# Altium footprint library ST Microprocessor 32-Bit.PcbLib: 14 footprints
Each footprint in its own frame and in the unit in brackets; x right, y up, seen from the top. Pads: shape width x height; smd on the part's side, far side on the other; paste and mask are expansions set on the pad; w line width, h text height; cw(c..) or ccw(c..) is an arc to the next point about the centre after c.
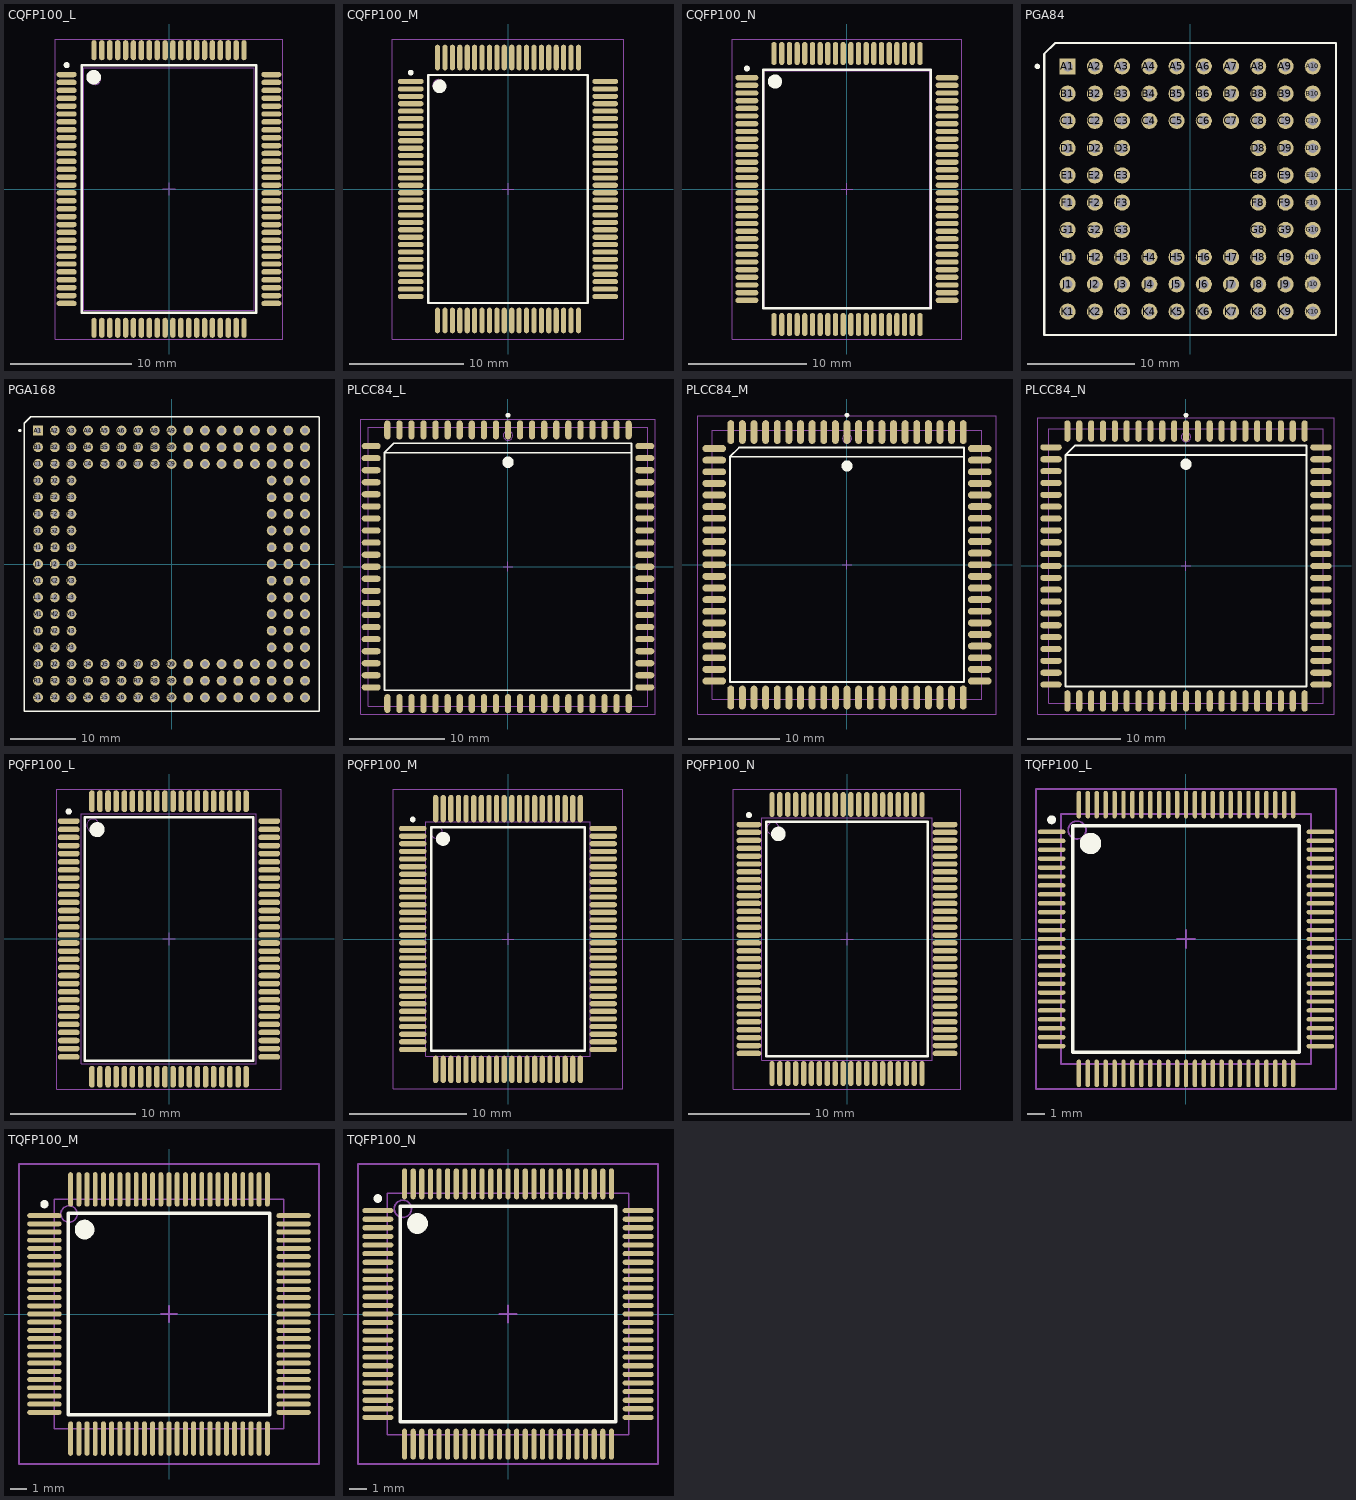
[diagram p0: the footprints below, top view; thin cyan lines are the x and y axes]

## CQFP100_L [mm] "QFP, 100-Leads, Body 20x14mm, Pitch 0.65mm, IPC High Density"
height 3.4
pads (100):
  oval 1.65x0.45 smd: 1(-8.425,9.425) 2(-8.425,8.775) 3(-8.425,8.125) 4(-8.425,7.475) 5(-8.425,6.825) 6(-8.425,6.175) 7(-8.425,5.525) 8(-8.425,4.875) 9(-8.425,4.225) 10(-8.425,3.575) 11(-8.425,2.925) 12(-8.425,2.275) 13(-8.425,1.625) 14(-8.425,0.975) 15(-8.425,0.325) 16(-8.425,-0.325) 17(-8.425,-0.975) 18(-8.425,-1.625) 19(-8.425,-2.275) 20(-8.425,-2.925) 21(-8.425,-3.575) 22(-8.425,-4.225) 23(-8.425,-4.875) 24(-8.425,-5.525) 25(-8.425,-6.175) 26(-8.425,-6.825) 27(-8.425,-7.475) 28(-8.425,-8.125) 29(-8.425,-8.775) 30(-8.425,-9.425) 51(8.425,-9.425) 52(8.425,-8.775) 53(8.425,-8.125) 54(8.425,-7.475) 55(8.425,-6.825) 56(8.425,-6.175) 57(8.425,-5.525) 58(8.425,-4.875) 59(8.425,-4.225) 60(8.425,-3.575) 61(8.425,-2.925) 62(8.425,-2.275) 63(8.425,-1.625) 64(8.425,-0.975) 65(8.425,-0.325) 66(8.425,0.325) 67(8.425,0.975) 68(8.425,1.625) 69(8.425,2.275) 70(8.425,2.925) 71(8.425,3.575) 72(8.425,4.225) 73(8.425,4.875) 74(8.425,5.525) 75(8.425,6.175) 76(8.425,6.825) 77(8.425,7.475) 78(8.425,8.125) 79(8.425,8.775) 80(8.425,9.425)
  oval 0.45x1.65 smd: 31(-6.175,-11.425) 32(-5.525,-11.425) 33(-4.875,-11.425) 34(-4.225,-11.425) 35(-3.575,-11.425) 36(-2.925,-11.425) 37(-2.275,-11.425) 38(-1.625,-11.425) 39(-0.975,-11.425) 40(-0.325,-11.425) 41(0.325,-11.425) 42(0.975,-11.425) 43(1.625,-11.425) 44(2.275,-11.425) 45(2.925,-11.425) 46(3.575,-11.425) 47(4.225,-11.425) 48(4.875,-11.425) 49(5.525,-11.425) 50(6.175,-11.425) 81(6.175,11.425) 82(5.525,11.425) 83(4.875,11.425) 84(4.225,11.425) 85(3.575,11.425) 86(2.925,11.425) 87(2.275,11.425) 88(1.625,11.425) 89(0.975,11.425) 90(0.325,11.425) 91(-0.325,11.425) 92(-0.975,11.425) 93(-1.625,11.425) 94(-2.275,11.425) 95(-2.925,11.425) 96(-3.575,11.425) 97(-4.225,11.425) 98(-4.875,11.425) 99(-5.525,11.425) 100(-6.175,11.425)
Top Overlay:
  circle w0.6: c-6.2,9.2 r0.3
  circle w0.25: c-8.425,10.2 r0.125
  lines w0.2: -7.2,-10.2 7.2,-10.2 7.2,10.2 -7.2,10.2 -7.2,-10.2
Mechanical 13:
  circle w0.1: c-6.1,9.1 r0.5
  lines w0.1: -7,-10 7,-10 7,10 -7,10 -7,-10
Mechanical 15:
  lines w0.1: -0.5,0 0.5,0 ; 0,-0.5 0,0.5 ; -9.35,-12.35 9.35,-12.35 9.35,12.35 -9.35,12.35 -9.35,-12.35
3D body: height 3.4, standoff 0, extent -7,-10 7,10

## CQFP100_M [mm] "QFP, 100-Leads, Body 20x14mm, Pitch 0.65mm, IPC Low Density"
height 3.4
pads (100):
  oval 2.25x0.45 smd: 1(-8.525,9.425) 2(-8.525,8.775) 3(-8.525,8.125) 4(-8.525,7.475) 5(-8.525,6.825) 6(-8.525,6.175) 7(-8.525,5.525) 8(-8.525,4.875) 9(-8.525,4.225) 10(-8.525,3.575) 11(-8.525,2.925) 12(-8.525,2.275) 13(-8.525,1.625) 14(-8.525,0.975) 15(-8.525,0.325) 16(-8.525,-0.325) 17(-8.525,-0.975) 18(-8.525,-1.625) 19(-8.525,-2.275) 20(-8.525,-2.925) 21(-8.525,-3.575) 22(-8.525,-4.225) 23(-8.525,-4.875) 24(-8.525,-5.525) 25(-8.525,-6.175) 26(-8.525,-6.825) 27(-8.525,-7.475) 28(-8.525,-8.125) 29(-8.525,-8.775) 30(-8.525,-9.425) 51(8.525,-9.425) 52(8.525,-8.775) 53(8.525,-8.125) 54(8.525,-7.475) 55(8.525,-6.825) 56(8.525,-6.175) 57(8.525,-5.525) 58(8.525,-4.875) 59(8.525,-4.225) 60(8.525,-3.575) 61(8.525,-2.925) 62(8.525,-2.275) 63(8.525,-1.625) 64(8.525,-0.975) 65(8.525,-0.325) 66(8.525,0.325) 67(8.525,0.975) 68(8.525,1.625) 69(8.525,2.275) 70(8.525,2.925) 71(8.525,3.575) 72(8.525,4.225) 73(8.525,4.875) 74(8.525,5.525) 75(8.525,6.175) 76(8.525,6.825) 77(8.525,7.475) 78(8.525,8.125) 79(8.525,8.775) 80(8.525,9.425)
  oval 0.45x2.25 smd: 31(-6.175,-11.525) 32(-5.525,-11.525) 33(-4.875,-11.525) 34(-4.225,-11.525) 35(-3.575,-11.525) 36(-2.925,-11.525) 37(-2.275,-11.525) 38(-1.625,-11.525) 39(-0.975,-11.525) 40(-0.325,-11.525) 41(0.325,-11.525) 42(0.975,-11.525) 43(1.625,-11.525) 44(2.275,-11.525) 45(2.925,-11.525) 46(3.575,-11.525) 47(4.225,-11.525) 48(4.875,-11.525) 49(5.525,-11.525) 50(6.175,-11.525) 81(6.175,11.525) 82(5.525,11.525) 83(4.875,11.525) 84(4.225,11.525) 85(3.575,11.525) 86(2.925,11.525) 87(2.275,11.525) 88(1.625,11.525) 89(0.975,11.525) 90(0.325,11.525) 91(-0.325,11.525) 92(-0.975,11.525) 93(-1.625,11.525) 94(-2.275,11.525) 95(-2.925,11.525) 96(-3.575,11.525) 97(-4.225,11.525) 98(-4.875,11.525) 99(-5.525,11.525) 100(-6.175,11.525)
Top Overlay:
  circle w0.25: c-8.525,10.2 r0.125
  circle w0.6: c-6,9 r0.3
  lines w0.2: -7,-10 -7,10 7,10 7,-10 -7,-10
Mechanical 13:
  circle w0.1: c-6.1,9.1 r0.5
  lines w0.1: -7,-10 -7,10 7,10 7,-10 -7,-10
Mechanical 15:
  lines w0.1: -0.5,0 0.5,0 ; 0,-0.5 0,0.5 ; -10.15,-13.15 -10.15,13.15 10.15,13.15 10.15,-13.15 -10.15,-13.15
3D body: height 3.4, standoff 0, extent -7,-10 7,10

## CQFP100_N [mm] "QFP, 100-Leads, Body 20x14mm, Pitch 0.65mm, IPC Medium Density"
height 3.4
pads (100):
  oval 1.95x0.45 smd: 1(-8.475,9.425) 2(-8.475,8.775) 3(-8.475,8.125) 4(-8.475,7.475) 5(-8.475,6.825) 6(-8.475,6.175) 7(-8.475,5.525) 8(-8.475,4.875) 9(-8.475,4.225) 10(-8.475,3.575) 11(-8.475,2.925) 12(-8.475,2.275) 13(-8.475,1.625) 14(-8.475,0.975) 15(-8.475,0.325) 16(-8.475,-0.325) 17(-8.475,-0.975) 18(-8.475,-1.625) 19(-8.475,-2.275) 20(-8.475,-2.925) 21(-8.475,-3.575) 22(-8.475,-4.225) 23(-8.475,-4.875) 24(-8.475,-5.525) 25(-8.475,-6.175) 26(-8.475,-6.825) 27(-8.475,-7.475) 28(-8.475,-8.125) 29(-8.475,-8.775) 30(-8.475,-9.425) 51(8.475,-9.425) 52(8.475,-8.775) 53(8.475,-8.125) 54(8.475,-7.475) 55(8.475,-6.825) 56(8.475,-6.175) 57(8.475,-5.525) 58(8.475,-4.875) 59(8.475,-4.225) 60(8.475,-3.575) 61(8.475,-2.925) 62(8.475,-2.275) 63(8.475,-1.625) 64(8.475,-0.975) 65(8.475,-0.325) 66(8.475,0.325) 67(8.475,0.975) 68(8.475,1.625) 69(8.475,2.275) 70(8.475,2.925) 71(8.475,3.575) 72(8.475,4.225) 73(8.475,4.875) 74(8.475,5.525) 75(8.475,6.175) 76(8.475,6.825) 77(8.475,7.475) 78(8.475,8.125) 79(8.475,8.775) 80(8.475,9.425)
  oval 0.45x1.95 smd: 31(-6.175,-11.475) 32(-5.525,-11.475) 33(-4.875,-11.475) 34(-4.225,-11.475) 35(-3.575,-11.475) 36(-2.925,-11.475) 37(-2.275,-11.475) 38(-1.625,-11.475) 39(-0.975,-11.475) 40(-0.325,-11.475) 41(0.325,-11.475) 42(0.975,-11.475) 43(1.625,-11.475) 44(2.275,-11.475) 45(2.925,-11.475) 46(3.575,-11.475) 47(4.225,-11.475) 48(4.875,-11.475) 49(5.525,-11.475) 50(6.175,-11.475) 81(6.175,11.475) 82(5.525,11.475) 83(4.875,11.475) 84(4.225,11.475) 85(3.575,11.475) 86(2.925,11.475) 87(2.275,11.475) 88(1.625,11.475) 89(0.975,11.475) 90(0.325,11.475) 91(-0.325,11.475) 92(-0.975,11.475) 93(-1.625,11.475) 94(-2.275,11.475) 95(-2.925,11.475) 96(-3.575,11.475) 97(-4.225,11.475) 98(-4.875,11.475) 99(-5.525,11.475) 100(-6.175,11.475)
Top Overlay:
  circle w0.25: c-8.475,10.2 r0.125
  circle w0.6: c-6.1,9.1 r0.3
  lines w0.2: -7.1,-10.1 -7.1,10.1 7.1,10.1 7.1,-10.1 -7.1,-10.1
Mechanical 13:
  circle w0.1: c-6.1,9.1 r0.5
  lines w0.1: -7,-10 -7,10 7,10 7,-10 -7,-10
Mechanical 15:
  lines w0.1: -0.5,0 0.5,0 ; 0,-0.5 0,0.5 ; -9.7,-12.7 -9.7,12.7 9.7,12.7 9.7,-12.7 -9.7,-12.7
3D body: height 3.4, standoff 0, extent -7,-10 7,10

## PGA84 [mm] "PGA, 84-Leads, Body 27x27mm, Pitch 2.54mm"
height 5.47
pads (84):
  rect 1.5x1.5 hole 0.9: A1(-11.43,11.43)
  round 1.5 hole 0.9: A2(-8.89,11.43) A3(-6.35,11.43) A4(-3.81,11.43) A5(-1.27,11.43) A6(1.27,11.43) A7(3.81,11.43) A8(6.35,11.43) A9(8.89,11.43) A10(11.43,11.43) B1(-11.43,8.89) B2(-8.89,8.89) B3(-6.35,8.89) B4(-3.81,8.89) B5(-1.27,8.89) B6(1.27,8.89) B7(3.81,8.89) B8(6.35,8.89) B9(8.89,8.89) B10(11.43,8.89) C1(-11.43,6.35) C2(-8.89,6.35) C3(-6.35,6.35) C4(-3.81,6.35) C5(-1.27,6.35) C6(1.27,6.35) C7(3.81,6.35) C8(6.35,6.35) C9(8.89,6.35) C10(11.43,6.35) D1(-11.43,3.81) D2(-8.89,3.81) D3(-6.35,3.81) D8(6.35,3.81) D9(8.89,3.81) D10(11.43,3.81) E1(-11.43,1.27) E2(-8.89,1.27) E3(-6.35,1.27) E8(6.35,1.27) E9(8.89,1.27) E10(11.43,1.27) F1(-11.43,-1.27) F2(-8.89,-1.27) F3(-6.35,-1.27) F8(6.35,-1.27) F9(8.89,-1.27) F10(11.43,-1.27) G1(-11.43,-3.81) G2(-8.89,-3.81) G3(-6.35,-3.81) G8(6.35,-3.81) G9(8.89,-3.81) G10(11.43,-3.81) H1(-11.43,-6.35) H2(-8.89,-6.35) H3(-6.35,-6.35) H4(-3.81,-6.35) H5(-1.27,-6.35) H6(1.27,-6.35) H7(3.81,-6.35) H8(6.35,-6.35) H9(8.89,-6.35) H10(11.43,-6.35) J1(-11.43,-8.89) J2(-8.89,-8.89) J3(-6.35,-8.89) J4(-3.81,-8.89) J5(-1.27,-8.89) J6(1.27,-8.89) J7(3.81,-8.89) J8(6.35,-8.89) J9(8.89,-8.89) J10(11.43,-8.89) K1(-11.43,-11.43) K2(-8.89,-11.43) K3(-6.35,-11.43) K4(-3.81,-11.43) K5(-1.27,-11.43) K6(1.27,-11.43) K7(3.81,-11.43) K8(6.35,-11.43) K9(8.89,-11.43) K10(11.43,-11.43)
Top Overlay:
  circle w0.25: c-14.25,11.43 r0.125
  lines w0.2: -13.6,-13.6 -13.6,12.6 -12.6,13.6 13.6,13.6 13.6,-13.6 -13.6,-13.6

## PGA168 [mm] "PGA, 168-Leads, Body 44.5x44.5mm, Pitch 2.54mm"
height 4.72
pads (168):
  rect 1.5x1.5 hole 0.9: A1(-20.32,20.32)
  round 1.5 hole 0.9: A2(-17.78,20.32) A3(-15.24,20.32) A4(-12.7,20.32) A5(-10.16,20.32) A6(-7.62,20.32) A7(-5.08,20.32) A8(-2.54,20.32) A9(0,20.32) A10(2.54,20.32) A11(5.08,20.32) A12(7.62,20.32) A13(10.16,20.32) A14(12.7,20.32) A15(15.24,20.32) A16(17.78,20.32) A17(20.32,20.32) B1(-20.32,17.78) B2(-17.78,17.78) B3(-15.24,17.78) B4(-12.7,17.78) B5(-10.16,17.78) B6(-7.62,17.78) B7(-5.08,17.78) B8(-2.54,17.78) B9(0,17.78) B10(2.54,17.78) B11(5.08,17.78) B12(7.62,17.78) B13(10.16,17.78) B14(12.7,17.78) B15(15.24,17.78) B16(17.78,17.78) B17(20.32,17.78) C1(-20.32,15.24) C2(-17.78,15.24) C3(-15.24,15.24) C4(-12.7,15.24) C5(-10.16,15.24) C6(-7.62,15.24) C7(-5.08,15.24) C8(-2.54,15.24) C9(0,15.24) C10(2.54,15.24) C11(5.08,15.24) C12(7.62,15.24) C13(10.16,15.24) C14(12.7,15.24) C15(15.24,15.24) C16(17.78,15.24) C17(20.32,15.24) D1(-20.32,12.7) D2(-17.78,12.7) D3(-15.24,12.7) D15(15.24,12.7) D16(17.78,12.7) D17(20.32,12.7) E1(-20.32,10.16) E2(-17.78,10.16) E3(-15.24,10.16) E15(15.24,10.16) E16(17.78,10.16) E17(20.32,10.16) F1(-20.32,7.62) F2(-17.78,7.62) F3(-15.24,7.62) F15(15.24,7.62) F16(17.78,7.62) F17(20.32,7.62) G1(-20.32,5.08) G2(-17.78,5.08) G3(-15.24,5.08) G15(15.24,5.08) G16(17.78,5.08) G17(20.32,5.08) H1(-20.32,2.54) H2(-17.78,2.54) H3(-15.24,2.54) H15(15.24,2.54) H16(17.78,2.54) H17(20.32,2.54) J1(-20.32,0) J2(-17.78,0) J3(-15.24,0) J15(15.24,0) J16(17.78,0) J17(20.32,0) K1(-20.32,-2.54) K2(-17.78,-2.54) K3(-15.24,-2.54) K15(15.24,-2.54) K16(17.78,-2.54) K17(20.32,-2.54) L1(-20.32,-5.08) L2(-17.78,-5.08) L3(-15.24,-5.08) L15(15.24,-5.08) L16(17.78,-5.08) L17(20.32,-5.08) M1(-20.32,-7.62) M2(-17.78,-7.62) M3(-15.24,-7.62) M15(15.24,-7.62) M16(17.78,-7.62) M17(20.32,-7.62) N1(-20.32,-10.16) N2(-17.78,-10.16) N3(-15.24,-10.16) N15(15.24,-10.16) N16(17.78,-10.16) N17(20.32,-10.16) P1(-20.32,-12.7) P2(-17.78,-12.7) P3(-15.24,-12.7) P15(15.24,-12.7) P16(17.78,-12.7) P17(20.32,-12.7) Q1(-20.32,-15.24) Q2(-17.78,-15.24) Q3(-15.24,-15.24) Q4(-12.7,-15.24) Q5(-10.16,-15.24) Q6(-7.62,-15.24) Q7(-5.08,-15.24) Q8(-2.54,-15.24) Q9(0,-15.24) Q10(2.54,-15.24) Q11(5.08,-15.24) Q12(7.62,-15.24) Q13(10.16,-15.24) Q14(12.7,-15.24) Q15(15.24,-15.24) Q16(17.78,-15.24) Q17(20.32,-15.24) R1(-20.32,-17.78) R2(-17.78,-17.78) R3(-15.24,-17.78) R4(-12.7,-17.78) R5(-10.16,-17.78) R6(-7.62,-17.78) R7(-5.08,-17.78) R8(-2.54,-17.78) R9(0,-17.78) R10(2.54,-17.78) R11(5.08,-17.78) R12(7.62,-17.78) R13(10.16,-17.78) R14(12.7,-17.78) R15(15.24,-17.78) R16(17.78,-17.78) R17(20.32,-17.78) S1(-20.32,-20.32) S2(-17.78,-20.32) S3(-15.24,-20.32) S4(-12.7,-20.32) S5(-10.16,-20.32) S6(-7.62,-20.32) S7(-5.08,-20.32) S8(-2.54,-20.32) S9(0,-20.32) S10(2.54,-20.32) S11(5.08,-20.32) S12(7.62,-20.32) S13(10.16,-20.32) S14(12.7,-20.32) S15(15.24,-20.32) S16(17.78,-20.32) S17(20.32,-20.32)
Top Overlay:
  circle w0.25: c-23.1,20.32 r0.125
  lines w0.2: -22.45,-22.45 -22.45,21.45 -21.45,22.45 22.45,22.45 22.45,-22.45 -22.45,-22.45

## PLCC84_L [mm] "Leaded Chip Carrier, 84-Leads, Body 29.3x29.3mm, Pitch 1.27mm, IPC High Density"
height 5.08
pads (84):
  oval 0.65x2 smd: 1(0,14.4) 2(-1.27,14.4) 3(-2.54,14.4) 4(-3.81,14.4) 5(-5.08,14.4) 6(-6.35,14.4) 7(-7.62,14.4) 8(-8.89,14.4) 9(-10.16,14.4) 10(-11.43,14.4) 11(-12.7,14.4) 33(-12.7,-14.4) 34(-11.43,-14.4) 35(-10.16,-14.4) 36(-8.89,-14.4) 37(-7.62,-14.4) 38(-6.35,-14.4) 39(-5.08,-14.4) 40(-3.81,-14.4) 41(-2.54,-14.4) 42(-1.27,-14.4) 43(0,-14.4) 44(1.27,-14.4) 45(2.54,-14.4) 46(3.81,-14.4) 47(5.08,-14.4) 48(6.35,-14.4) 49(7.62,-14.4) 50(8.89,-14.4) 51(10.16,-14.4) 52(11.43,-14.4) 53(12.7,-14.4) 75(12.7,14.4) 76(11.43,14.4) 77(10.16,14.4) 78(8.89,14.4) 79(7.62,14.4) 80(6.35,14.4) 81(5.08,14.4) 82(3.81,14.4) 83(2.54,14.4) 84(1.27,14.4)
  oval 2x0.65 smd: 12(-14.4,12.7) 13(-14.4,11.43) 14(-14.4,10.16) 15(-14.4,8.89) 16(-14.4,7.62) 17(-14.4,6.35) 18(-14.4,5.08) 19(-14.4,3.81) 20(-14.4,2.54) 21(-14.4,1.27) 22(-14.4,0) 23(-14.4,-1.27) 24(-14.4,-2.54) 25(-14.4,-3.81) 26(-14.4,-5.08) 27(-14.4,-6.35) 28(-14.4,-7.62) 29(-14.4,-8.89) 30(-14.4,-10.16) 31(-14.4,-11.43) 32(-14.4,-12.7) 54(14.4,-12.7) 55(14.4,-11.43) 56(14.4,-10.16) 57(14.4,-8.89) 58(14.4,-7.62) 59(14.4,-6.35) 60(14.4,-5.08) 61(14.4,-3.81) 62(14.4,-2.54) 63(14.4,-1.27) 64(14.4,0) 65(14.4,1.27) 66(14.4,2.54) 67(14.4,3.81) 68(14.4,5.08) 69(14.4,6.35) 70(14.4,7.62) 71(14.4,8.89) 72(14.4,10.16) 73(14.4,11.43) 74(14.4,12.7)
Top Overlay:
  circle w0.25: c0,15.95 r0.125
  circle w0.6: c0,11 r0.3
  lines w0.2: 13,12 -13,12 ; -13,12 -12,13 13,13 13,-13 -13,-13 -13,12
Mechanical 13:
  circle w0.1: c0,13.805 r0.5
  lines w0.1: -14.705,-14.705 -14.705,14.705 14.705,14.705 14.705,-14.705 -14.705,-14.705
Mechanical 15:
  lines w0.1: -0.5,0 0.5,0 ; 0,-0.5 0,0.5 ; -15.5,-15.5 -15.5,15.5 15.5,15.5 15.5,-15.5 -15.5,-15.5
3D body: height 5.08, standoff 0, extent -14.705,-14.705 14.705,14.705

## PLCC84_M [mm] "Leaded Chip Carrier, 84-Leads, Body 29.3x29.3mm, Pitch 1.27mm, IPC Low Density"
height 5.08
pads (84):
  oval 0.75x2.6 smd: 1(0,14.5) 2(-1.27,14.5) 3(-2.54,14.5) 4(-3.81,14.5) 5(-5.08,14.5) 6(-6.35,14.5) 7(-7.62,14.5) 8(-8.89,14.5) 9(-10.16,14.5) 10(-11.43,14.5) 11(-12.7,14.5) 33(-12.7,-14.5) 34(-11.43,-14.5) 35(-10.16,-14.5) 36(-8.89,-14.5) 37(-7.62,-14.5) 38(-6.35,-14.5) 39(-5.08,-14.5) 40(-3.81,-14.5) 41(-2.54,-14.5) 42(-1.27,-14.5) 43(0,-14.5) 44(1.27,-14.5) 45(2.54,-14.5) 46(3.81,-14.5) 47(5.08,-14.5) 48(6.35,-14.5) 49(7.62,-14.5) 50(8.89,-14.5) 51(10.16,-14.5) 52(11.43,-14.5) 53(12.7,-14.5) 75(12.7,14.5) 76(11.43,14.5) 77(10.16,14.5) 78(8.89,14.5) 79(7.62,14.5) 80(6.35,14.5) 81(5.08,14.5) 82(3.81,14.5) 83(2.54,14.5) 84(1.27,14.5)
  oval 2.6x0.75 smd: 12(-14.5,12.7) 13(-14.5,11.43) 14(-14.5,10.16) 15(-14.5,8.89) 16(-14.5,7.62) 17(-14.5,6.35) 18(-14.5,5.08) 19(-14.5,3.81) 20(-14.5,2.54) 21(-14.5,1.27) 22(-14.5,0) 23(-14.5,-1.27) 24(-14.5,-2.54) 25(-14.5,-3.81) 26(-14.5,-5.08) 27(-14.5,-6.35) 28(-14.5,-7.62) 29(-14.5,-8.89) 30(-14.5,-10.16) 31(-14.5,-11.43) 32(-14.5,-12.7) 54(14.5,-12.7) 55(14.5,-11.43) 56(14.5,-10.16) 57(14.5,-8.89) 58(14.5,-7.62) 59(14.5,-6.35) 60(14.5,-5.08) 61(14.5,-3.81) 62(14.5,-2.54) 63(14.5,-1.27) 64(14.5,0) 65(14.5,1.27) 66(14.5,2.54) 67(14.5,3.81) 68(14.5,5.08) 69(14.5,6.35) 70(14.5,7.62) 71(14.5,8.89) 72(14.5,10.16) 73(14.5,11.43) 74(14.5,12.7)
Top Overlay:
  circle w0.25: c0,16.35 r0.125
  circle w0.6: c0,10.8 r0.3
  lines w0.2: 12.8,11.8 -12.8,11.8 ; -12.8,11.8 -11.8,12.8 12.8,12.8 12.8,-12.8 -12.8,-12.8 -12.8,11.8
Mechanical 13:
  circle w0.1: c0,13.805 r0.5
  lines w0.1: -14.705,-14.705 -14.705,14.705 14.705,14.705 14.705,-14.705 -14.705,-14.705
Mechanical 15:
  lines w0.1: -0.5,0 0.5,0 ; 0,-0.5 0,0.5 ; -16.3,-16.3 -16.3,16.3 16.3,16.3 16.3,-16.3 -16.3,-16.3
3D body: height 5.08, standoff 0, extent -14.705,-14.705 14.705,14.705

## PLCC84_N [mm] "Leaded Chip Carrier, 84-Leads, Body 29.3x29.3mm, Pitch 1.27mm, IPC Medium Density"
height 5.08
pads (84):
  oval 0.65x2.3 smd: 1(0,14.45) 2(-1.27,14.45) 3(-2.54,14.45) 4(-3.81,14.45) 5(-5.08,14.45) 6(-6.35,14.45) 7(-7.62,14.45) 8(-8.89,14.45) 9(-10.16,14.45) 10(-11.43,14.45) 11(-12.7,14.45) 33(-12.7,-14.45) 34(-11.43,-14.45) 35(-10.16,-14.45) 36(-8.89,-14.45) 37(-7.62,-14.45) 38(-6.35,-14.45) 39(-5.08,-14.45) 40(-3.81,-14.45) 41(-2.54,-14.45) 42(-1.27,-14.45) 43(0,-14.45) 44(1.27,-14.45) 45(2.54,-14.45) 46(3.81,-14.45) 47(5.08,-14.45) 48(6.35,-14.45) 49(7.62,-14.45) 50(8.89,-14.45) 51(10.16,-14.45) 52(11.43,-14.45) 53(12.7,-14.45) 75(12.7,14.45) 76(11.43,14.45) 77(10.16,14.45) 78(8.89,14.45) 79(7.62,14.45) 80(6.35,14.45) 81(5.08,14.45) 82(3.81,14.45) 83(2.54,14.45) 84(1.27,14.45)
  oval 2.3x0.65 smd: 12(-14.45,12.7) 13(-14.45,11.43) 14(-14.45,10.16) 15(-14.45,8.89) 16(-14.45,7.62) 17(-14.45,6.35) 18(-14.45,5.08) 19(-14.45,3.81) 20(-14.45,2.54) 21(-14.45,1.27) 22(-14.45,0) 23(-14.45,-1.27) 24(-14.45,-2.54) 25(-14.45,-3.81) 26(-14.45,-5.08) 27(-14.45,-6.35) 28(-14.45,-7.62) 29(-14.45,-8.89) 30(-14.45,-10.16) 31(-14.45,-11.43) 32(-14.45,-12.7) 54(14.45,-12.7) 55(14.45,-11.43) 56(14.45,-10.16) 57(14.45,-8.89) 58(14.45,-7.62) 59(14.45,-6.35) 60(14.45,-5.08) 61(14.45,-3.81) 62(14.45,-2.54) 63(14.45,-1.27) 64(14.45,0) 65(14.45,1.27) 66(14.45,2.54) 67(14.45,3.81) 68(14.45,5.08) 69(14.45,6.35) 70(14.45,7.62) 71(14.45,8.89) 72(14.45,10.16) 73(14.45,11.43) 74(14.45,12.7)
Top Overlay:
  circle w0.25: c0,16.15 r0.125
  circle w0.6: c0,10.9 r0.3
  lines w0.2: 12.9,11.9 -12.9,11.9 ; -12.9,11.9 -11.9,12.9 12.9,12.9 12.9,-12.9 -12.9,-12.9 -12.9,11.9
Mechanical 13:
  circle w0.1: c0,13.805 r0.5
  lines w0.1: -14.705,-14.705 -14.705,14.705 14.705,14.705 14.705,-14.705 -14.705,-14.705
Mechanical 15:
  lines w0.1: -0.5,0 0.5,0 ; 0,-0.5 0,0.5 ; -15.85,-15.85 -15.85,15.85 15.85,15.85 15.85,-15.85 -15.85,-15.85
3D body: height 5.08, standoff 0, extent -14.705,-14.705 14.705,14.705

## PQFP100_L [mm] "QFP, 100-Leads, Body 20x14mm, Pitch 0.65mm, IPC High Density"
height 3.4
pads (100):
  oval 1.75x0.45 smd: 1(-8.025,9.425) 2(-8.025,8.775) 3(-8.025,8.125) 4(-8.025,7.475) 5(-8.025,6.825) 6(-8.025,6.175) 7(-8.025,5.525) 8(-8.025,4.875) 9(-8.025,4.225) 10(-8.025,3.575) 11(-8.025,2.925) 12(-8.025,2.275) 13(-8.025,1.625) 14(-8.025,0.975) 15(-8.025,0.325) 16(-8.025,-0.325) 17(-8.025,-0.975) 18(-8.025,-1.625) 19(-8.025,-2.275) 20(-8.025,-2.925) 21(-8.025,-3.575) 22(-8.025,-4.225) 23(-8.025,-4.875) 24(-8.025,-5.525) 25(-8.025,-6.175) 26(-8.025,-6.825) 27(-8.025,-7.475) 28(-8.025,-8.125) 29(-8.025,-8.775) 30(-8.025,-9.425) 51(8.025,-9.425) 52(8.025,-8.775) 53(8.025,-8.125) 54(8.025,-7.475) 55(8.025,-6.825) 56(8.025,-6.175) 57(8.025,-5.525) 58(8.025,-4.875) 59(8.025,-4.225) 60(8.025,-3.575) 61(8.025,-2.925) 62(8.025,-2.275) 63(8.025,-1.625) 64(8.025,-0.975) 65(8.025,-0.325) 66(8.025,0.325) 67(8.025,0.975) 68(8.025,1.625) 69(8.025,2.275) 70(8.025,2.925) 71(8.025,3.575) 72(8.025,4.225) 73(8.025,4.875) 74(8.025,5.525) 75(8.025,6.175) 76(8.025,6.825) 77(8.025,7.475) 78(8.025,8.125) 79(8.025,8.775) 80(8.025,9.425)
  oval 0.45x1.75 smd: 31(-6.175,-11.025) 32(-5.525,-11.025) 33(-4.875,-11.025) 34(-4.225,-11.025) 35(-3.575,-11.025) 36(-2.925,-11.025) 37(-2.275,-11.025) 38(-1.625,-11.025) 39(-0.975,-11.025) 40(-0.325,-11.025) 41(0.325,-11.025) 42(0.975,-11.025) 43(1.625,-11.025) 44(2.275,-11.025) 45(2.925,-11.025) 46(3.575,-11.025) 47(4.225,-11.025) 48(4.875,-11.025) 49(5.525,-11.025) 50(6.175,-11.025) 81(6.175,11.025) 82(5.525,11.025) 83(4.875,11.025) 84(4.225,11.025) 85(3.575,11.025) 86(2.925,11.025) 87(2.275,11.025) 88(1.625,11.025) 89(0.975,11.025) 90(0.325,11.025) 91(-0.325,11.025) 92(-0.975,11.025) 93(-1.625,11.025) 94(-2.275,11.025) 95(-2.925,11.025) 96(-3.575,11.025) 97(-4.225,11.025) 98(-4.875,11.025) 99(-5.525,11.025) 100(-6.175,11.025)
Top Overlay:
  circle w0.6: c-5.75,8.75 r0.3
  circle w0.25: c-8.025,10.2 r0.125
  lines w0.2: -6.75,-9.75 6.75,-9.75 6.75,9.75 -6.75,9.75 -6.75,-9.75
Mechanical 13:
  circle w0.1: c-6.1,9.1 r0.5
  lines w0.1: -7,-10 7,-10 7,10 -7,10 -7,-10
Mechanical 15:
  lines w0.1: -0.5,0 0.5,0 ; 0,-0.5 0,0.5 ; -9,-12 9,-12 9,12 -9,12 -9,-12
3D body: height 3.4, standoff 0, extent -7,-10 7,10

## PQFP100_M [mm] "QFP, 100-Leads, Body 20x14mm, Pitch 0.65mm, IPC Low Density"
height 3.4
pads (100):
  oval 2.35x0.45 smd: 1(-8.125,9.425) 2(-8.125,8.775) 3(-8.125,8.125) 4(-8.125,7.475) 5(-8.125,6.825) 6(-8.125,6.175) 7(-8.125,5.525) 8(-8.125,4.875) 9(-8.125,4.225) 10(-8.125,3.575) 11(-8.125,2.925) 12(-8.125,2.275) 13(-8.125,1.625) 14(-8.125,0.975) 15(-8.125,0.325) 16(-8.125,-0.325) 17(-8.125,-0.975) 18(-8.125,-1.625) 19(-8.125,-2.275) 20(-8.125,-2.925) 21(-8.125,-3.575) 22(-8.125,-4.225) 23(-8.125,-4.875) 24(-8.125,-5.525) 25(-8.125,-6.175) 26(-8.125,-6.825) 27(-8.125,-7.475) 28(-8.125,-8.125) 29(-8.125,-8.775) 30(-8.125,-9.425) 51(8.125,-9.425) 52(8.125,-8.775) 53(8.125,-8.125) 54(8.125,-7.475) 55(8.125,-6.825) 56(8.125,-6.175) 57(8.125,-5.525) 58(8.125,-4.875) 59(8.125,-4.225) 60(8.125,-3.575) 61(8.125,-2.925) 62(8.125,-2.275) 63(8.125,-1.625) 64(8.125,-0.975) 65(8.125,-0.325) 66(8.125,0.325) 67(8.125,0.975) 68(8.125,1.625) 69(8.125,2.275) 70(8.125,2.925) 71(8.125,3.575) 72(8.125,4.225) 73(8.125,4.875) 74(8.125,5.525) 75(8.125,6.175) 76(8.125,6.825) 77(8.125,7.475) 78(8.125,8.125) 79(8.125,8.775) 80(8.125,9.425)
  oval 0.45x2.35 smd: 31(-6.175,-11.125) 32(-5.525,-11.125) 33(-4.875,-11.125) 34(-4.225,-11.125) 35(-3.575,-11.125) 36(-2.925,-11.125) 37(-2.275,-11.125) 38(-1.625,-11.125) 39(-0.975,-11.125) 40(-0.325,-11.125) 41(0.325,-11.125) 42(0.975,-11.125) 43(1.625,-11.125) 44(2.275,-11.125) 45(2.925,-11.125) 46(3.575,-11.125) 47(4.225,-11.125) 48(4.875,-11.125) 49(5.525,-11.125) 50(6.175,-11.125) 81(6.175,11.125) 82(5.525,11.125) 83(4.875,11.125) 84(4.225,11.125) 85(3.575,11.125) 86(2.925,11.125) 87(2.275,11.125) 88(1.625,11.125) 89(0.975,11.125) 90(0.325,11.125) 91(-0.325,11.125) 92(-0.975,11.125) 93(-1.625,11.125) 94(-2.275,11.125) 95(-2.925,11.125) 96(-3.575,11.125) 97(-4.225,11.125) 98(-4.875,11.125) 99(-5.525,11.125) 100(-6.175,11.125)
Top Overlay:
  circle w0.6: c-5.55,8.55 r0.3
  circle w0.25: c-8.125,10.2 r0.125
  lines w0.2: -6.55,-9.55 6.55,-9.55 6.55,9.55 -6.55,9.55 -6.55,-9.55
Mechanical 13:
  circle w0.1: c-6.1,9.1 r0.5
  lines w0.1: -7,-10 7,-10 7,10 -7,10 -7,-10
Mechanical 15:
  lines w0.1: -0.5,0 0.5,0 ; 0,-0.5 0,0.5 ; -9.8,-12.8 9.8,-12.8 9.8,12.8 -9.8,12.8 -9.8,-12.8
3D body: height 3.4, standoff 0, extent -7,-10 7,10

## PQFP100_N [mm] "QFP, 100-Leads, Body 20x14mm, Pitch 0.65mm, IPC Medium Density"
height 3.4
pads (100):
  oval 2.05x0.45 smd: 1(-8.075,9.425) 2(-8.075,8.775) 3(-8.075,8.125) 4(-8.075,7.475) 5(-8.075,6.825) 6(-8.075,6.175) 7(-8.075,5.525) 8(-8.075,4.875) 9(-8.075,4.225) 10(-8.075,3.575) 11(-8.075,2.925) 12(-8.075,2.275) 13(-8.075,1.625) 14(-8.075,0.975) 15(-8.075,0.325) 16(-8.075,-0.325) 17(-8.075,-0.975) 18(-8.075,-1.625) 19(-8.075,-2.275) 20(-8.075,-2.925) 21(-8.075,-3.575) 22(-8.075,-4.225) 23(-8.075,-4.875) 24(-8.075,-5.525) 25(-8.075,-6.175) 26(-8.075,-6.825) 27(-8.075,-7.475) 28(-8.075,-8.125) 29(-8.075,-8.775) 30(-8.075,-9.425) 51(8.075,-9.425) 52(8.075,-8.775) 53(8.075,-8.125) 54(8.075,-7.475) 55(8.075,-6.825) 56(8.075,-6.175) 57(8.075,-5.525) 58(8.075,-4.875) 59(8.075,-4.225) 60(8.075,-3.575) 61(8.075,-2.925) 62(8.075,-2.275) 63(8.075,-1.625) 64(8.075,-0.975) 65(8.075,-0.325) 66(8.075,0.325) 67(8.075,0.975) 68(8.075,1.625) 69(8.075,2.275) 70(8.075,2.925) 71(8.075,3.575) 72(8.075,4.225) 73(8.075,4.875) 74(8.075,5.525) 75(8.075,6.175) 76(8.075,6.825) 77(8.075,7.475) 78(8.075,8.125) 79(8.075,8.775) 80(8.075,9.425)
  oval 0.45x2.05 smd: 31(-6.175,-11.075) 32(-5.525,-11.075) 33(-4.875,-11.075) 34(-4.225,-11.075) 35(-3.575,-11.075) 36(-2.925,-11.075) 37(-2.275,-11.075) 38(-1.625,-11.075) 39(-0.975,-11.075) 40(-0.325,-11.075) 41(0.325,-11.075) 42(0.975,-11.075) 43(1.625,-11.075) 44(2.275,-11.075) 45(2.925,-11.075) 46(3.575,-11.075) 47(4.225,-11.075) 48(4.875,-11.075) 49(5.525,-11.075) 50(6.175,-11.075) 81(6.175,11.075) 82(5.525,11.075) 83(4.875,11.075) 84(4.225,11.075) 85(3.575,11.075) 86(2.925,11.075) 87(2.275,11.075) 88(1.625,11.075) 89(0.975,11.075) 90(0.325,11.075) 91(-0.325,11.075) 92(-0.975,11.075) 93(-1.625,11.075) 94(-2.275,11.075) 95(-2.925,11.075) 96(-3.575,11.075) 97(-4.225,11.075) 98(-4.875,11.075) 99(-5.525,11.075) 100(-6.175,11.075)
Top Overlay:
  circle w0.6: c-5.65,8.65 r0.3
  circle w0.25: c-8.075,10.2 r0.125
  lines w0.2: -6.65,-9.65 6.65,-9.65 6.65,9.65 -6.65,9.65 -6.65,-9.65
Mechanical 13:
  circle w0.1: c-6.1,9.1 r0.5
  lines w0.1: -7,-10 7,-10 7,10 -7,10 -7,-10
Mechanical 15:
  lines w0.1: -0.5,0 0.5,0 ; 0,-0.5 0,0.5 ; -9.35,-12.35 9.35,-12.35 9.35,12.35 -9.35,12.35 -9.35,-12.35
3D body: height 3.4, standoff 0, extent -7,-10 7,10

## TQFP100_L [mm] "Thin QFP, 100-Leads, Body 14x14mm, Pitch 0.5mm, IPC High Density"
height 1.6
pads (100):
  oval 1.55x0.25 smd: 1(-7.525,6) 2(-7.525,5.5) 3(-7.525,5) 4(-7.525,4.5) 5(-7.525,4) 6(-7.525,3.5) 7(-7.525,3) 8(-7.525,2.5) 9(-7.525,2) 10(-7.525,1.5) 11(-7.525,1) 12(-7.525,0.5) 13(-7.525,0) 14(-7.525,-0.5) 15(-7.525,-1) 16(-7.525,-1.5) 17(-7.525,-2) 18(-7.525,-2.5) 19(-7.525,-3) 20(-7.525,-3.5) 21(-7.525,-4) 22(-7.525,-4.5) 23(-7.525,-5) 24(-7.525,-5.5) 25(-7.525,-6) 51(7.525,-6) 52(7.525,-5.5) 53(7.525,-5) 54(7.525,-4.5) 55(7.525,-4) 56(7.525,-3.5) 57(7.525,-3) 58(7.525,-2.5) 59(7.525,-2) 60(7.525,-1.5) 61(7.525,-1) 62(7.525,-0.5) 63(7.525,0) 64(7.525,0.5) 65(7.525,1) 66(7.525,1.5) 67(7.525,2) 68(7.525,2.5) 69(7.525,3) 70(7.525,3.5) 71(7.525,4) 72(7.525,4.5) 73(7.525,5) 74(7.525,5.5) 75(7.525,6)
  oval 0.25x1.55 smd: 26(-6,-7.525) 27(-5.5,-7.525) 28(-5,-7.525) 29(-4.5,-7.525) 30(-4,-7.525) 31(-3.5,-7.525) 32(-3,-7.525) 33(-2.5,-7.525) 34(-2,-7.525) 35(-1.5,-7.525) 36(-1,-7.525) 37(-0.5,-7.525) 38(0,-7.525) 39(0.5,-7.525) 40(1,-7.525) 41(1.5,-7.525) 42(2,-7.525) 43(2.5,-7.525) 44(3,-7.525) 45(3.5,-7.525) 46(4,-7.525) 47(4.5,-7.525) 48(5,-7.525) 49(5.5,-7.525) 50(6,-7.525) 76(6,7.525) 77(5.5,7.525) 78(5,7.525) 79(4.5,7.525) 80(4,7.525) 81(3.5,7.525) 82(3,7.525) 83(2.5,7.525) 84(2,7.525) 85(1.5,7.525) 86(1,7.525) 87(0.5,7.525) 88(0,7.525) 89(-0.5,7.525) 90(-1,7.525) 91(-1.5,7.525) 92(-2,7.525) 93(-2.5,7.525) 94(-3,7.525) 95(-3.5,7.525) 96(-4,7.525) 97(-4.5,7.525) 98(-5,7.525) 99(-5.5,7.525) 100(-6,7.525)
Top Overlay:
  circle w0.6: c-5.35,5.35 r0.3
  circle w0.25: c-7.525,6.675 r0.125
  lines w0.2: -6.35,-6.35 6.35,-6.35 6.35,6.35 -6.35,6.35 -6.35,-6.35
Mechanical 13:
  circle w0.1: c-6.1,6.1 r0.5
  lines w0.1: -7,-7 7,-7 7,7 -7,7 -7,-7
Mechanical 15:
  lines w0.1: -0.5,0 0.5,0 ; 0,-0.5 0,0.5 ; -8.4,-8.4 8.4,-8.4 8.4,8.4 -8.4,8.4 -8.4,-8.4
3D body: height 1.6, standoff 0, extent -7,-7 7,7

## TQFP100_M [mm] "Thin QFP, 100-Leads, Body 14x14mm, Pitch 0.5mm, IPC Low Density"
height 1.6
pads (100):
  oval 2.1x0.3 smd: 1(-7.6,6) 2(-7.6,5.5) 3(-7.6,5) 4(-7.6,4.5) 5(-7.6,4) 6(-7.6,3.5) 7(-7.6,3) 8(-7.6,2.5) 9(-7.6,2) 10(-7.6,1.5) 11(-7.6,1) 12(-7.6,0.5) 13(-7.6,0) 14(-7.6,-0.5) 15(-7.6,-1) 16(-7.6,-1.5) 17(-7.6,-2) 18(-7.6,-2.5) 19(-7.6,-3) 20(-7.6,-3.5) 21(-7.6,-4) 22(-7.6,-4.5) 23(-7.6,-5) 24(-7.6,-5.5) 25(-7.6,-6) 51(7.6,-6) 52(7.6,-5.5) 53(7.6,-5) 54(7.6,-4.5) 55(7.6,-4) 56(7.6,-3.5) 57(7.6,-3) 58(7.6,-2.5) 59(7.6,-2) 60(7.6,-1.5) 61(7.6,-1) 62(7.6,-0.5) 63(7.6,0) 64(7.6,0.5) 65(7.6,1) 66(7.6,1.5) 67(7.6,2) 68(7.6,2.5) 69(7.6,3) 70(7.6,3.5) 71(7.6,4) 72(7.6,4.5) 73(7.6,5) 74(7.6,5.5) 75(7.6,6)
  oval 0.3x2.1 smd: 26(-6,-7.6) 27(-5.5,-7.6) 28(-5,-7.6) 29(-4.5,-7.6) 30(-4,-7.6) 31(-3.5,-7.6) 32(-3,-7.6) 33(-2.5,-7.6) 34(-2,-7.6) 35(-1.5,-7.6) 36(-1,-7.6) 37(-0.5,-7.6) 38(0,-7.6) 39(0.5,-7.6) 40(1,-7.6) 41(1.5,-7.6) 42(2,-7.6) 43(2.5,-7.6) 44(3,-7.6) 45(3.5,-7.6) 46(4,-7.6) 47(4.5,-7.6) 48(5,-7.6) 49(5.5,-7.6) 50(6,-7.6) 76(6,7.6) 77(5.5,7.6) 78(5,7.6) 79(4.5,7.6) 80(4,7.6) 81(3.5,7.6) 82(3,7.6) 83(2.5,7.6) 84(2,7.6) 85(1.5,7.6) 86(1,7.6) 87(0.5,7.6) 88(0,7.6) 89(-0.5,7.6) 90(-1,7.6) 91(-1.5,7.6) 92(-2,7.6) 93(-2.5,7.6) 94(-3,7.6) 95(-3.5,7.6) 96(-4,7.6) 97(-4.5,7.6) 98(-5,7.6) 99(-5.5,7.6) 100(-6,7.6)
Top Overlay:
  circle w0.6: c-5.15,5.15 r0.3
  circle w0.25: c-7.6,6.7 r0.125
  lines w0.2: -6.15,-6.15 6.15,-6.15 6.15,6.15 -6.15,6.15 -6.15,-6.15
Mechanical 13:
  circle w0.1: c-6.1,6.1 r0.5
  lines w0.1: -7,-7 7,-7 7,7 -7,7 -7,-7
Mechanical 15:
  lines w0.1: -0.5,0 0.5,0 ; 0,-0.5 0,0.5 ; -9.15,-9.15 9.15,-9.15 9.15,9.15 -9.15,9.15 -9.15,-9.15
3D body: height 1.6, standoff 0, extent -7,-7 7,7

## TQFP100_N [mm] "Thin QFP, 100-Leads, Body 14x14mm, Pitch 0.5mm, IPC Medium Density"
height 1.6
pads (100):
  oval 1.8x0.3 smd: 1(-7.55,6) 2(-7.55,5.5) 3(-7.55,5) 4(-7.55,4.5) 5(-7.55,4) 6(-7.55,3.5) 7(-7.55,3) 8(-7.55,2.5) 9(-7.55,2) 10(-7.55,1.5) 11(-7.55,1) 12(-7.55,0.5) 13(-7.55,0) 14(-7.55,-0.5) 15(-7.55,-1) 16(-7.55,-1.5) 17(-7.55,-2) 18(-7.55,-2.5) 19(-7.55,-3) 20(-7.55,-3.5) 21(-7.55,-4) 22(-7.55,-4.5) 23(-7.55,-5) 24(-7.55,-5.5) 25(-7.55,-6) 51(7.55,-6) 52(7.55,-5.5) 53(7.55,-5) 54(7.55,-4.5) 55(7.55,-4) 56(7.55,-3.5) 57(7.55,-3) 58(7.55,-2.5) 59(7.55,-2) 60(7.55,-1.5) 61(7.55,-1) 62(7.55,-0.5) 63(7.55,0) 64(7.55,0.5) 65(7.55,1) 66(7.55,1.5) 67(7.55,2) 68(7.55,2.5) 69(7.55,3) 70(7.55,3.5) 71(7.55,4) 72(7.55,4.5) 73(7.55,5) 74(7.55,5.5) 75(7.55,6)
  oval 0.3x1.8 smd: 26(-6,-7.55) 27(-5.5,-7.55) 28(-5,-7.55) 29(-4.5,-7.55) 30(-4,-7.55) 31(-3.5,-7.55) 32(-3,-7.55) 33(-2.5,-7.55) 34(-2,-7.55) 35(-1.5,-7.55) 36(-1,-7.55) 37(-0.5,-7.55) 38(0,-7.55) 39(0.5,-7.55) 40(1,-7.55) 41(1.5,-7.55) 42(2,-7.55) 43(2.5,-7.55) 44(3,-7.55) 45(3.5,-7.55) 46(4,-7.55) 47(4.5,-7.55) 48(5,-7.55) 49(5.5,-7.55) 50(6,-7.55) 76(6,7.55) 77(5.5,7.55) 78(5,7.55) 79(4.5,7.55) 80(4,7.55) 81(3.5,7.55) 82(3,7.55) 83(2.5,7.55) 84(2,7.55) 85(1.5,7.55) 86(1,7.55) 87(0.5,7.55) 88(0,7.55) 89(-0.5,7.55) 90(-1,7.55) 91(-1.5,7.55) 92(-2,7.55) 93(-2.5,7.55) 94(-3,7.55) 95(-3.5,7.55) 96(-4,7.55) 97(-4.5,7.55) 98(-5,7.55) 99(-5.5,7.55) 100(-6,7.55)
Top Overlay:
  circle w0.6: c-5.25,5.25 r0.3
  circle w0.25: c-7.55,6.7 r0.125
  lines w0.2: -6.25,-6.25 6.25,-6.25 6.25,6.25 -6.25,6.25 -6.25,-6.25
Mechanical 13:
  circle w0.1: c-6.1,6.1 r0.5
  lines w0.1: -7,-7 7,-7 7,7 -7,7 -7,-7
Mechanical 15:
  lines w0.1: -0.5,0 0.5,0 ; 0,-0.5 0,0.5 ; -8.7,-8.7 8.7,-8.7 8.7,8.7 -8.7,8.7 -8.7,-8.7
3D body: height 1.6, standoff 0, extent -7,-7 7,7